# EAGLE library part TPS61222?* (library MasterPhonebot)
TPS61222 Description The TPS6122x family devices provide a power-supply solution for products powered by either a single-cell, two-cell, or three-cell alkaline, NiCd or NiMH, or one-cell Li-Ion or Li-polymer battery. Possible output currents depend on the input-to-output voltage ratio. The boost converter is based on a hysteretic controller topology using synchronous rectification to obtain maximum efficiency at minimal quiescent currents. The output voltage of the adjustable version can be programmed by an external resistor divider, or is set internally to a fixed output voltage. The converter can be switched off by a featured enable pin. While being switched off, battery drain is minimized. The device is offered in a 6-pin SC-70 package (DCK) measuring 2 mm × 2 mm to enable small circuit layout size. Features Up to 95% Efficiency at Typical Operating Conditions 5.5 µA Quiescent Current Startup Into Load at 0.7 V Input Voltage Operating Input Voltage from 0.7 V to 5.5 V Pass-Through Function during Shutdown Minimum Switching Current 200 mA Protections: Output Overvoltage Overtemperature Input Undervoltage Lockout Adjustable Output Voltage from 1.8 V to 6 V Fixed Output Voltage Versions Small 6-pin SC-70 Package Details see: Datasheet <http://www.ti.com/lit/ds/symlink/tps61222.pdf> www.ti.com <http://www.ti.com/product/TPS61222> Created: L.Lischke 2015-03-21 (c) KK-Prime Engineering GmbH
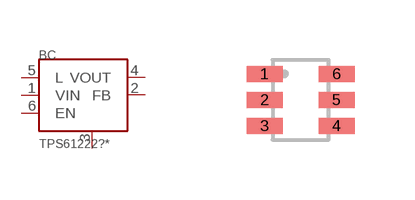
[diagram p13: symbol with the pads of SOP65P210X110-6L; footprint SOP65P210X110-6L]

Designator prefix BC

## TPS61222DCKR (SPQ: 3000), TPS61222DCKT (SPQ: 250)  [SOP65P210X110-6L]
1  VIN  in
2  FB  in
3  GND  pwr
4  VOUT  out
5  L  pas
6  EN  in

## Footprint SOP65P210X110-6L (pad centres in mm)
6 Lead SOP Package: R-PDSO-G6 IPC: SOP65P210X110-6L Created: L. Lischke 2015-03-21 (c) KK-Prime Egineering GmbH
smd 0.9 x 0.4: 1 -0.9,0.65; 2 -0.9,0; 3 -0.9,-0.65; 4 0.9,-0.65; 5 0.9,0; 6 0.9,0.65